# EAGLE library part PN5120A0HN1/C2,151 (library PN5120)
TRX MODULE, NFC, 3.3V, 32HVQFN
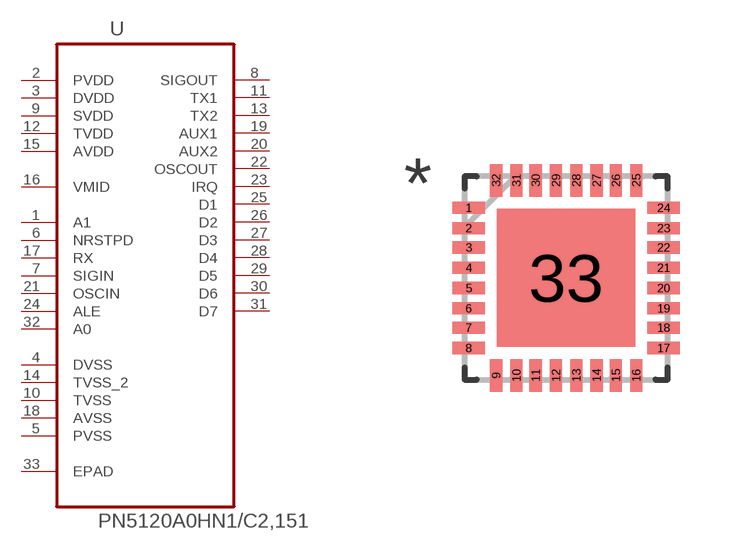
[diagram p0: symbol with the pads of QFN50P500X500X100-33N; footprint QFN50P500X500X100-33N]

Designator prefix U

## PN5120A0HN1/C2,151 (MPN: PN5120A0HN1/C2,151; OC_FARNELL: 1902844; OC_NEWARK: 71T7104; PACKAGE: HVQFN32; SUPPLIER: NXP)  [QFN50P500X500X100-33N]
1  A1  in
2  PVDD  pwr
3  DVDD  pwr
4  DVSS  pas
5  PVSS  pas
6  NRSTPD  in
7  SIGIN  in
8  SIGOUT  out
9  SVDD  pwr
10  TVSS  pwr
11  TX1  out
12  TVDD  pwr
13  TX2  out
14  TVSS_2  pwr
15  AVDD  pwr
16  VMID  pwr
17  RX  in
18  AVSS  pwr
19  AUX1  out
20  AUX2  out
21  OSCIN  in
22  OSCOUT  out
23  IRQ  out
24  ALE  in
25  D1
26  D2
27  D3
28  D4
29  D5
30  D6
31  D7
32  A0  in
33  EPAD  pas

## Footprint QFN50P500X500X100-33N (pad centres in mm)
smd 0.813 x 0.305: 1 -2.438,1.753; 2 -2.438,1.245; 3 -2.438,0.762; 4 -2.438,0.254; 5 -2.438,-0.254; 6 -2.438,-0.762; 7 -2.438,-1.245; 8 -2.438,-1.753; 17 2.438,-1.753; 18 2.438,-1.245; 19 2.438,-0.762; 20 2.438,-0.254; 21 2.438,0.254; 22 2.438,0.762; 23 2.438,1.245; 24 2.438,1.753
smd 0.305 x 0.813: 9 -1.753,-2.438; 10 -1.245,-2.438; 11 -0.762,-2.438; 12 -0.254,-2.438; 13 0.254,-2.438; 14 0.762,-2.438; 15 1.245,-2.438; 16 1.753,-2.438; 25 1.753,2.438; 26 1.245,2.438; 27 0.762,2.438; 28 0.254,2.438; 29 -0.254,2.438; 30 -0.762,2.438; 31 -1.245,2.438; 32 -1.753,2.438
smd 3.454 x 3.454: 33 0,0